# Altium schematic symbol library VESC_MotorController.SCHLIB: 140 symbols (part 2 of 2)
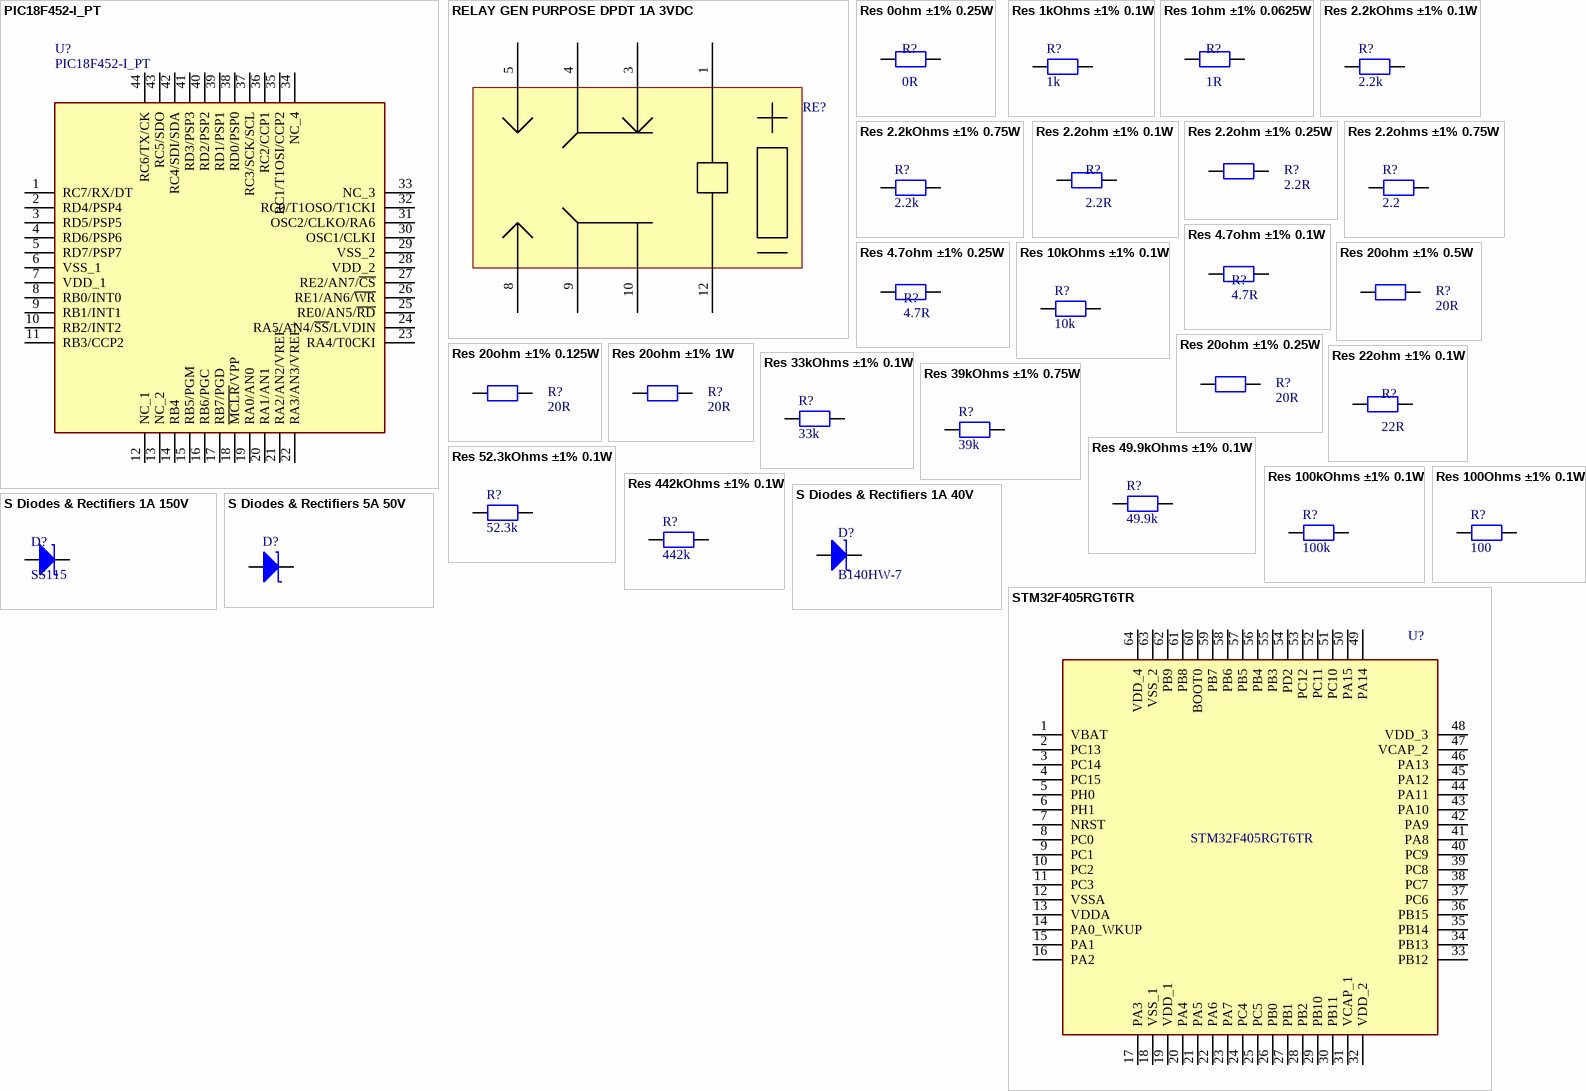
[diagram p6: symbols PIC18F452-I_PT to STM32F405RGT6TR]

## Res 39kOhms ±1% 0.75W
designator R?, comment 39k
Thick Film Resistors - SMD 39kOhms 3/4W 2010 1%; Manufacturer: Yageo; Manufacturer Part Number: RC2010FK-0739KL; Value: 39k; Supplier: Mouser; Supplier Part Number: 603-RC2010FK-0739KL; Price: 0.24
footprint R2010
pins: 1, 2

## Res 49.9kOhms ±1% 0.1W
designator R?, comment 49.9k
Thick Film Resistors - SMD 49.9K Ohms 100mW 1% 0603; Manufacturer: Yageo; Manufacturer Part Number: RC0603FR-0749K9L; Value: 49.9k; Supplier: mouser; Supplier Part Number: 603-RC0603FR-0749K9L; Price: 0.1
footprint R0603 (Footprint not found)
pins: 1, 2

## Res 52.3kOhms ±1% 0.1W
designator R?, comment 52.3k
hick Film Resistors - SMD 52.3 kOhms 100mW 0603 1%; Manufacturer: Yageo; Manufacturer Part Number: RC0603FR-0752K3L; Value: 52.3k; Supplier: mouser; Supplier Part Number: 603-RC0603FR-0752K3L; Price: 0.1
footprint R0603 (Footprint not found)
pins: 1, 2

## Res 100kOhms ±1% 0.1W
designator R?, comment 100k
Thick Film Resistors - SMD 100 kOhms 100mW 0603 1%; Manufacturer: Yageo; Manufacturer Part Number: RC0603FR-07100KL; Value: 100k; Supplier: mouser; Supplier Part Number: 603-RC0603FR-07100KL; Price: 0.1
footprint R0603 (Footprint not found)
pins: 1, 2

## Res 100Ohms ±1% 0.1W
designator R?, comment 100
Thick Film Resistors - SMD 100 Ohms 100mW 0603 1%; Manufacturer: Yageo; Manufacturer Part Number: RC0603FR-07100RL; Value: 100; Supplier: Mouser; Supplier Part Number: 603-RC0603FR-07100RL; Price: 0.1
footprint R0603 (Footprint not found)
pins: 1, 2

## Res 442kOhms ±1% 0.1W
designator R?, comment 442k
Thick Film Resistors - SMD 442 kOhms 100 mW 0603 1%; Manufacturer: Yageo; Manufacturer Part Number: RC0603FR-07442KL; Value: 442k; Supplier: Mouser; Supplier Part Number: 603-RC0603FR-07442KL; Price: 0.1
footprint R0603 (Footprint not found)
pins: 1, 2

## S Diodes & Rectifiers 1A 40V
designator D?, comment B140HW-7
Schottky Diodes & Rectifiers SCHOTTKY RECTIFIER SOD-123 1.0A 40V; Value: B140HW-7; Manufacturer Part Number: B140HW-7; Manufacturer: Diodes; Supplier: Mouser; Supplier Part Number: 621-B140HW-7; Price: 0.44
footprint SOD123
pins: A, C

## S Diodes & Rectifiers 1A 150V
designator D?, comment SS115
Schottky Diodes & Rectifiers 1A, 150V, Schottky Rectifier; Manufacturer: Taiwan Semiconductor; Value: SS115; Price: 0.34; Supplier: Mouser; Manufacturer Part Number: SS115; Supplier Part Number: 821-SS115
footprint DIOM4325X250N
pins: A, C

## S Diodes & Rectifiers 5A 50V
designator D?, comment B550C-13-F  (value not drawn)
Schottky Diodes & Rectifiers 50V 5A; Manufacturer: Diodes Incorporated; Value: B550C-13-F; Supplier: Mouser; Supplier part Number: 621-B550C-F; Price: 0.557; Manufacturer part Number: B550C-13-F
footprint SOD8060X250N_2A (B550C-13-F,DIODE SCHOTTKY 50V 5A SMC)
pins: 1 K, 2 A

## STM32F405RGT6TR
designator U?
STM32F405RGT6TR, 32 bit ARM Cortex M4 MCU 168MHz 1024 kB Flash, 192 kB RAM, 2xUSB CAN I2C 64-Pin LQFP; Manufacturer: STMicroelectronics; Supplier Part Number: 511-STM32F405RGT6TR; Supplier: Mouser; Manufacturer Part Number: STM32F405RGT6TR; Value: STM32F405RGT6TR; Price: 11.6
footprint QFP50P1200X1200X160-64N
pins: 1 VBAT, 2 PC13, 3 PC14, 4 PC15, 5 PH0, 6 PH1, 7 NRST, 8 PC0, 9 PC1, 10 PC2, 11 PC3, 12 VSSA, 13 VDDA, 14 PA0_WKUP, 15 PA1, 16 PA2, 17 PA3, 18 VSS_1, 19 VDD_1, 20 PA4, 21 PA5, 22 PA6, 23 PA7, 24 PC4, 25 PC5, 26 PB0, 27 PB1, 28 PB2, 29 PB10, 30 PB11, 31 VCAP_1, 32 VDD_2, 33 PB12, 34 PB13, 35 PB14, 36 PB15, 37 PC6, 38 PC7, 39 PC8, 40 PC9, 41 PA8, 42 PA9, 43 PA10, 44 PA11, 45 PA12, 46 PA13, 47 VCAP_2, 48 VDD_3, 49 PA14, 50 PA15, 51 PC10, 52 PC11, 53 PC12, 54 PD2, 55 PB3, 56 PB4, 57 PB5, 58 PB6, 59 PB7, 60 BOOT0, 61 PB8, 62 PB9, 63 VSS_2, 64 VDD_4

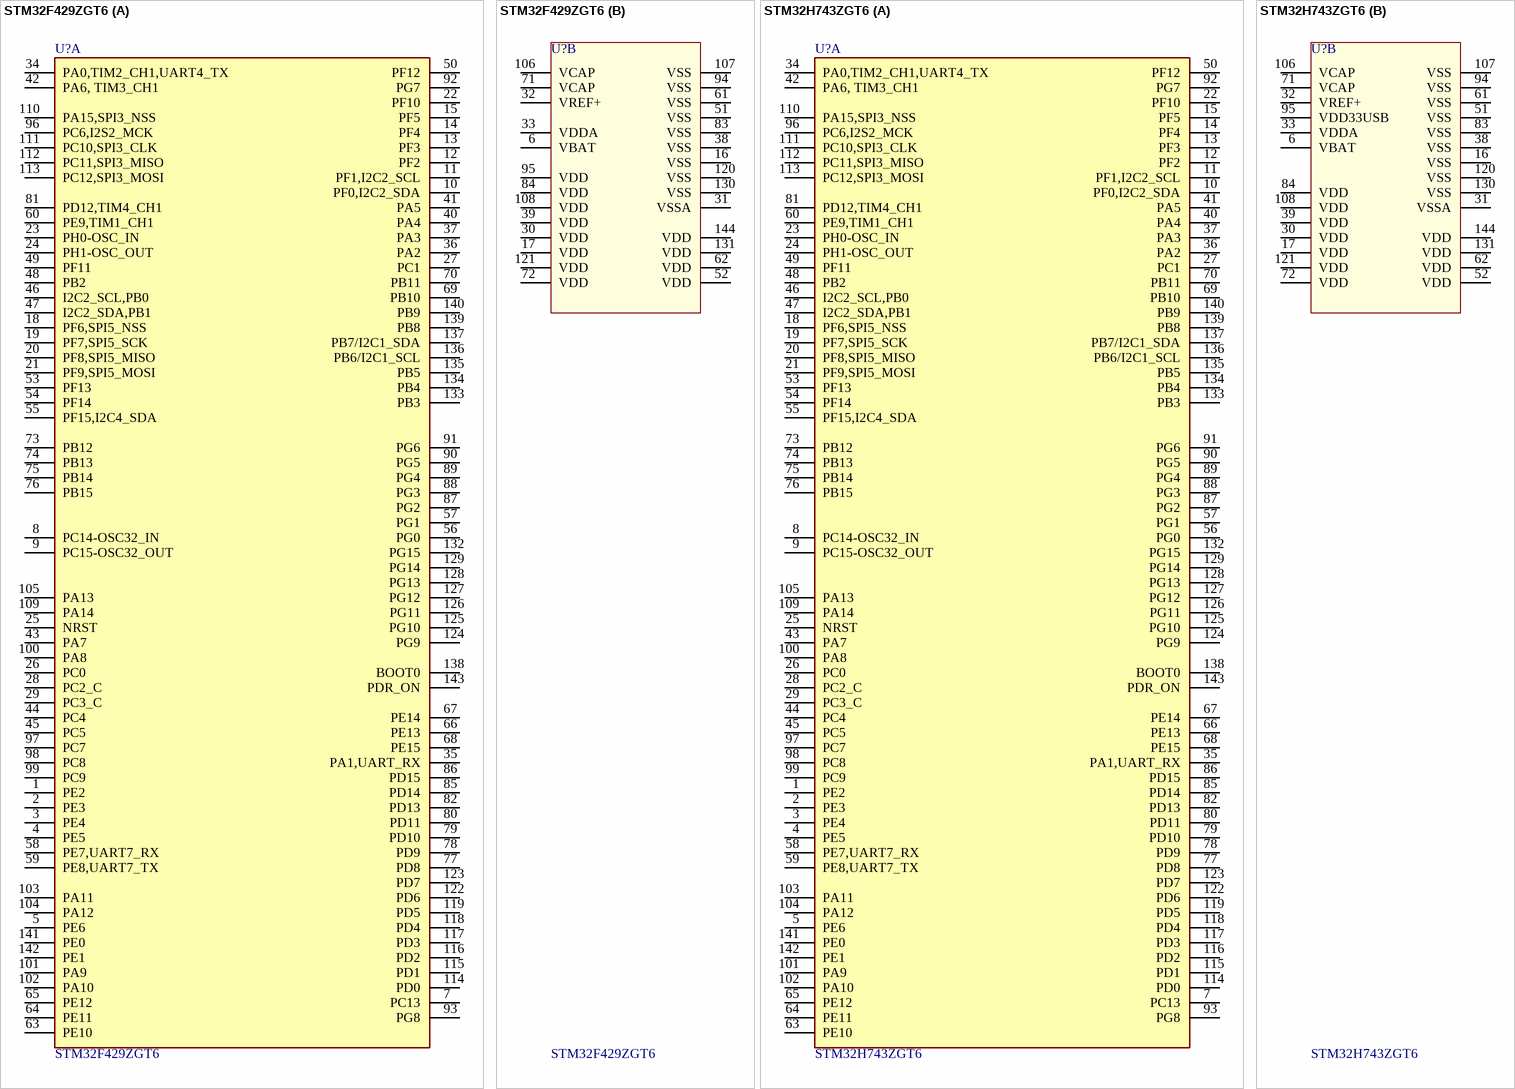
[diagram p4: symbols STM32F429ZGT6 to STM32H743ZGT6]

## STM32F429ZGT6
designator U?
ARM® Cortex®-M4 series Microcontroller IC 32-Bit Single-Core 180MHz 1MB (1M x 8) FLASH 144-LQFP (20x20); Manufacturer: STMicroelectronics; Categories: Embedded - Microcontrollers; Rating: 1.8V ~ 3.6V; Manufacturer Part Number: STM32F429ZGT6; Part Status: Active; Operating Temperature: *-40°C ~ 85°C (TA); Mounting Type: Surface Mount; Package / Case: 144-LQFP; Distributor: Digikey; Distributor Part Number: 497-17461-ND; Reference Link: https://www.digikey.com/en/products/detail/stmicroelectronics/STM32F429ZGT6/4357426; Unit Price: 21.55
footprint QFP50P2200X2200X160-144N
part A pins: 1 PE2, 2 PE3, 3 PE4, 4 PE5, 5 PE6, 7 PC13, 8 PC14-OSC32_IN, 9 PC15-OSC32_OUT, 10 PF0,I2C2_SDA, 11 PF1,I2C2_SCL, 12 PF2, 13 PF3, 14 PF4, 15 PF5, 18 PF6,SPI5_NSS, 19 PF7,SPI5_SCK, 20 PF8,SPI5_MISO, 21 PF9,SPI5_MOSI, 22 PF10, 23 PH0-OSC_IN, 24 PH1-OSC_OUT, 25 NRST, 26 PC0, 27 PC1, 28 PC2_C, 29 PC3_C, 34 PA0,TIM2_CH1,UART4_TX, 35 PA1,UART_RX, 36 PA2, 37 PA3, 40 PA4, 41 PA5, 42 PA6, TIM3_CH1, 43 PA7, 44 PC4, 45 PC5, 46 I2C2_SCL,PB0, 47 I2C2_SDA,PB1, 48 PB2, 49 PF11, 50 PF12, 53 PF13, 54 PF14, 55 PF15,I2C4_SDA, 56 PG0, 57 PG1, 58 PE7,UART7_RX, 59 PE8,UART7_TX, 60 PE9,TIM1_CH1, 63 PE10, 64 PE11, 65 PE12, 66 PE13, 67 PE14, 68 PE15, 69 PB10, 70 PB11, 73 PB12, 74 PB13, 75 PB14, 76 PB15, 77 PD8, 78 PD9, 79 PD10, 80 PD11, 81 PD12,TIM4_CH1, 82 PD13, 85 PD14, 86 PD15, 87 PG2, 88 PG3, 89 PG4, 90 PG5, 91 PG6, 92 PG7, 93 PG8, 96 PC6,I2S2_MCK, 97 PC7, 98 PC8, 99 PC9, 100 PA8, 101 PA9, 102 PA10, 103 PA11, 104 PA12, 105 PA13, 109 PA14, 110 PA15,SPI3_NSS, 111 PC10,SPI3_CLK, 112 PC11,SPI3_MISO, 113 PC12,SPI3_MOSI, 114 PD0, 115 PD1, 116 PD2, 117 PD3, 118 PD4, 119 PD5, 122 PD6, 123 PD7, 124 PG9, 125 PG10, 126 PG11, 127 PG12, 128 PG13, 129 PG14, 132 PG15, 133 PB3, 134 PB4, 135 PB5, 136 PB6/I2C1_SCL, 137 PB7/I2C1_SDA, 138 BOOT0, 139 PB8, 140 PB9, 141 PE0, 142 PE1, 143 PDR_ON
part B pins: 6 VBAT (power), 16 VSS (power), 17 VDD (power), 30 VDD (power), 31 VSSA (power), 32 VREF+ (power), 33 VDDA (power), 38 VSS (power), 39 VDD (power), 51 VSS (power), 52 VDD (power), 61 VSS (power), 62 VDD (power), 71 VCAP (power), 72 VDD (power), 83 VSS (power), 84 VDD (power), 94 VSS (power), 95 VDD (power), 106 VCAP (power), 107 VSS (power), 108 VDD (power), 120 VSS (power), 121 VDD (power), 130 VSS (power), 131 VDD (power), 144 VDD (power)

## STM32H743ZGT6
designator U?
ARM® Cortex®-M7 STM32H7 Microcontroller IC 32-Bit 480MHz 1MB (1M x 8) FLASH 144-LQFP (20x20); Manufacturer: STMicroelectronics; Categories: Embedded - Microcontrollers; Rating: 1.62V ~ 3.6V; Manufacturer Part Number: STM32H743ZGT6; Part Status: Active; Operating Temperature: *-40°C ~ 85°C (TA); Mounting Type: Surface Mount; Package / Case: 144-LQFP; Distributor: Digikey; Distributor Part Number: 497-STM32H743ZGT6-ND; Reference Link: https://www.digikey.in/products/en?keywords=STM32H743ZGT6; Unit Price: 1,230.90000
footprint QFP50P2200X2200X160-144N
part A pins: 1 PE2, 2 PE3, 3 PE4, 4 PE5, 5 PE6, 7 PC13, 8 PC14-OSC32_IN, 9 PC15-OSC32_OUT, 10 PF0,I2C2_SDA, 11 PF1,I2C2_SCL, 12 PF2, 13 PF3, 14 PF4, 15 PF5, 18 PF6,SPI5_NSS, 19 PF7,SPI5_SCK, 20 PF8,SPI5_MISO, 21 PF9,SPI5_MOSI, 22 PF10, 23 PH0-OSC_IN, 24 PH1-OSC_OUT, 25 NRST, 26 PC0, 27 PC1, 28 PC2_C, 29 PC3_C, 34 PA0,TIM2_CH1,UART4_TX, 35 PA1,UART_RX, 36 PA2, 37 PA3, 40 PA4, 41 PA5, 42 PA6, TIM3_CH1, 43 PA7, 44 PC4, 45 PC5, 46 I2C2_SCL,PB0, 47 I2C2_SDA,PB1, 48 PB2, 49 PF11, 50 PF12, 53 PF13, 54 PF14, 55 PF15,I2C4_SDA, 56 PG0, 57 PG1, 58 PE7,UART7_RX, 59 PE8,UART7_TX, 60 PE9,TIM1_CH1, 63 PE10, 64 PE11, 65 PE12, 66 PE13, 67 PE14, 68 PE15, 69 PB10, 70 PB11, 73 PB12, 74 PB13, 75 PB14, 76 PB15, 77 PD8, 78 PD9, 79 PD10, 80 PD11, 81 PD12,TIM4_CH1, 82 PD13, 85 PD14, 86 PD15, 87 PG2, 88 PG3, 89 PG4, 90 PG5, 91 PG6, 92 PG7, 93 PG8, 96 PC6,I2S2_MCK, 97 PC7, 98 PC8, 99 PC9, 100 PA8, 101 PA9, 102 PA10, 103 PA11, 104 PA12, 105 PA13, 109 PA14, 110 PA15,SPI3_NSS, 111 PC10,SPI3_CLK, 112 PC11,SPI3_MISO, 113 PC12,SPI3_MOSI, 114 PD0, 115 PD1, 116 PD2, 117 PD3, 118 PD4, 119 PD5, 122 PD6, 123 PD7, 124 PG9, 125 PG10, 126 PG11, 127 PG12, 128 PG13, 129 PG14, 132 PG15, 133 PB3, 134 PB4, 135 PB5, 136 PB6/I2C1_SCL, 137 PB7/I2C1_SDA, 138 BOOT0, 139 PB8, 140 PB9, 141 PE0, 142 PE1, 143 PDR_ON
part B pins: 6 VBAT (power), 16 VSS (power), 17 VDD (power), 30 VDD (power), 31 VSSA (power), 32 VREF+ (power), 33 VDDA (power), 38 VSS (power), 39 VDD (power), 51 VSS (power), 52 VDD (power), 61 VSS (power), 62 VDD (power), 71 VCAP (power), 72 VDD (power), 83 VSS (power), 84 VDD (power), 94 VSS (power), 95 VDD33USB (power), 106 VCAP (power), 107 VSS (power), 108 VDD (power), 120 VSS (power), 121 VDD (power), 130 VSS (power), 131 VDD (power), 144 VDD (power)

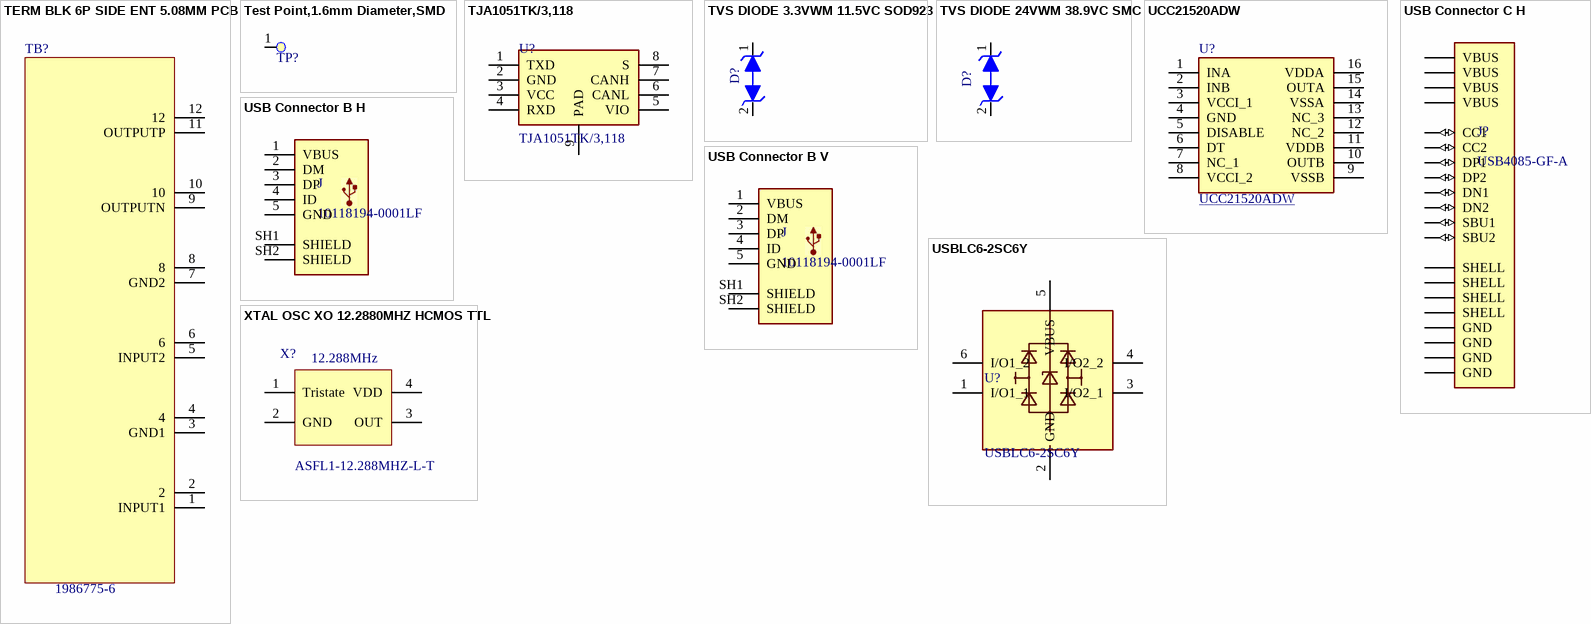
[diagram p5: symbols TERM BLK 6P SIDE ENT 5.08MM PCB to XTAL OSC XO 12.2880MHZ HCMOS TTL]

## TERM BLK 6P SIDE ENT 5.08MM PCB
designator TB?  Manufacturer Part Number: 1986775-6  (hidden comment: TERM BLK 6P SIDE ENT 5.08MM PCB)
6 Position Wire to Board Terminal Block Horizontal with Board 0.200" (5.08mm) Through Hole; Manufacturer: TE Connectivity AMP Connectors; Wire Gauge: 12 AWG; Rating: 300V  15A; Category: Terminal Blocks - Wire to Board; Package: Tray; Part Status: Active; Mounting Type: Through Hole; Operating Temperature: -40°C ~ 110°C; Distributor: Digikey; Distributor Part Number: A120496-ND; Unit Price: 349.87000
footprint TE_1986775-6
pins: 1 INPUT1, 2, 3 GND1, 4, 5 INPUT2, 6, 7 GND2, 8, 9 OUTPUTN, 10, 11 OUTPUTP, 12

## Test Point,1.6mm Diameter,SMD
designator TP?  (value not drawn)  (no BOM)
AEMCI Part Number: *; Vendor: *; Vendor ID: *
footprint TP_63C
pins: 1 0

## TJA1051TK/3,118
designator U?
CAN Interface IC BL Advanced Automotive Analog; Manufacturer: NXP Semiconductors; Supplier Part Number: 771-TJA1051TK/3,118; Supplier: Mouser; Manufacturer Part Number: TJA1051TK/3,118; Price: 1.6; Value: TJA1051TK/3,118
footprint SON65P300X300X95-8N
pins: 1 TXD, 2 GND, 3 VCC (power), 4 RXD, 5 VIO, 6 CANL, 7 CANH, 8 S, 9 PAD

## TVS DIODE 3.3VWM 11.5VC SOD923
designator D?  (value not drawn)
11.5V Clamp 2A (8/20µs) Ipp Tvs Diode Surface Mount SOD-923; Manufacturer Part Number: ESD9B3.3ST5G; Manufacturer: ON Semiconductor; Value: 3.3V 11.5V; Assembly Option: DNP; Tolerance: NA; Operating Temperature: -55°C to +150°C; Distributor: Digikey; Distributor part Number: ESD9B3.3ST5GOSTR-ND; Package: SOD-923; Rating: 3.3V 11.5V; Reference link: https://www.digikey.com/product-detail/en/on-semiconductor/ESD9B3.3ST5G/ESD9B3.3ST5GOSTR-ND/1973669; Type: TVS; Unit Price: $0.24000
footprint SOD1006X40N_BI (ESD9B3.3ST5G,ESD9B3.3ST5G)
pins: 1 K, 2 A

## TVS DIODE 24VWM 38.9VC SMC
designator D?  (value not drawn)
38.9V Clamp 77.2A Ipp Tvs Diode Surface Mount DO-214AB (SMC); Manufacturer: Bourns Inc.; Manufacturer part Number: SMLJ24CA-Q; Rating: 3000W (3kW); Tolerance: NA; Operating Temperature: -55°C ~ 150°C (TJ); Value: 38.9V Clamp 77.2A; Package: DO-214AB, SMC; Distributor: Digikey; Type: TVS; Reference link: https://www.digikey.com/en/products/detail/bourns-inc/SMLJ24CA-Q/8275811; Distributor part Number: SMLJ24CA-QCT-ND; Unit Price: $1.45000
footprint SOD8060X260N_BI (SMLJ24CA-Q,TVS DIODE 24VWM 38.9VC SMC)
pins: 1 K, 2 A

## UCC21520ADW
designator U?
4A/6A, 5.7 kVrms Isolated Dual Channel Gate Driver; Manufacturer: Texas Instruments; Supplier Part Number: 595-UCC21520ADW; Value: UCC21520ADW; Manufacturer Part Number: UCC21520ADW; Price: 5.2; Supplier: Mouser
footprint SOIC127P1030X265-16N
pins: 1 INA, 2 INB, 3 VCCI_1, 4 GND, 5 DISABLE, 6 DT, 7 NC_1, 8 VCCI_2, 9 VSSB, 10 OUTB, 11 VDDB, 12 NC_2, 13 NC_3, 14 VSSA, 15 OUTA, 16 VDDA

## USB Connector B H
designator J, comment 10118194-0001LF
USB Connectors 5P MICRO USB TYPE B RCPT W/ REAR PEGS; Manufacturer: Amphenol FCI; Manufacturer Part Number: 10118194-0001LF; Price: 0.46; Value: 10118194-0001LF; Supplier Part Number: 649-10118194-0001LF; Supplier: Mouser
footprint 10118194-0001LF (CONN USB MICRO B RECPT SMT R/A)
pins: 1 VBUS, 2 DM, 3 DP, 4 ID, 5 GND, SH1 SHIELD, SH2 SHIELD

## USB Connector B V
designator J, comment 10118194-0001LF
USB Connectors WR-COM USB Micro THT Type B Vertical; Manufacturer Part Number: 614105150721; Manufacturer: Wurth Elektronik; Price: 2.12; Value: 10118194-0001LF; Supplier Part Number: 710-614105150721; Supplier: Mouser
footprint WURTH_614105150721
pins: 1 VBUS, 2 DM, 3 DP, 4 ID, 5 GND, SH1 SHIELD, SH2 SHIELD

## USB Connector C H
designator J?, comment USB4085-GF-A
USB-C (USB TYPE-C) USB 2.0 Receptacle Connector 24 (16+8 Dummy) Position Through Hole, Right Angle, low cost, 3.46mm profile, 16 pin, horizontal, Top mount; Manufacturer: Global Connector Technology; Price: 0.935; Value: USB4085-GF-A; Supplier: Mouser; Manufacturer Part Number: USB4085-GF-A; Supplier Part Number: 640-USB4085-GF-A
footprint GCT_USB4085-GF-A_REVB
pins: A1 GND (power), A4 VBUS (power), A5 CC1 (io), A6 DP1 (io), A7 DN1 (io), A8 SBU1 (io), A9 VBUS (power), A12 GND (power), B1 GND (power), B4 VBUS (power), B5 CC2 (io), B6 DP2 (io), B7 DN2 (io), B8 SBU2 (io), B9 VBUS (power), B12 GND (power), S1 SHELL, S2 SHELL, S3 SHELL, S4 SHELL

## USBLC6-2SC6Y
designator U?
Low Cap. ESD Protection Auto SOT-23-6 STMicroelectronics USBLC6-2SC6Y, Dual Uni-Directional TVS Diode Array, 6-Pin SOT-23; Supplier Part Number: 511-USBLC6-2SC6Y; Supplier: Mouser; Manufacturer Part Number: USBLC6-2SC6Y; Price: 1; Manufacturer: STMicroelectronics; Value: USBLC6-2SC6Y
footprint SOT95P280X145-6N
pins: 1 I/O1_1, 2 GND, 3 I/O2_1, 4 I/O2_2, 5 VBUS, 6 I/O1_2

## XTAL OSC XO 12.2880MHZ HCMOS TTL
designator X?  value 12.288MHz  Manufacturer part Number: ASFL1-12.288MHZ-L-T  (hidden comment: XTAL OSC XO 12.2880MHZ HCMOS TTL)
Manufacturer: Abracon LLC; Rating: 3.3V,100ppm; Distributor: Digikey; Package: 4 SMD, No Lead; Operating Temperature: -40°C ~ 85°C; Type: Crystal; Distributor part Number: 535-10810-1-ND; Reference link: https://www.digikey.com/en/products/detail/abracon-llc/ASFL1-12-288MHZ-L-T/2623937; Unit Price: $1.14000
footprint XTAL500X320X130-4N (Footprint not found)
pins: 1 Tristate, 2 GND (power), 3 OUT, 4 VDD
2 alternate drawings of the same symbol